# EAGLE library part MSP430-23P (library E&R_BoosterPacks)
MSP430 Booster Pack con pines GND & VCC
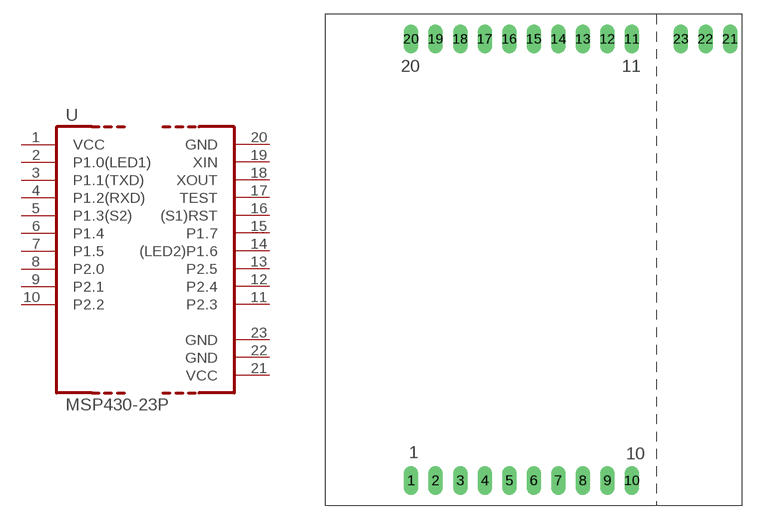
[diagram p1: symbol with the pads of MSP430-23P; footprint MSP430-23P]

Designator prefix U

## MSP430-23P  [MSP430-23P]
1  VCC  pwr
2  P1.0(LED1)
3  P1.1(TXD)
4  P1.2(RXD)
5  P1.3(S2)
6  P1.4
7  P1.5
8  P2.0
9  P2.1
10  P2.2
11  P2.3
12  P2.4
13  P2.5
14  (LED2)P1.6
15  P1.7
16  (S1)RST
17  TEST
18  XOUT
19  XIN
20  GND  pwr
21  VCC  pwr
22  GND  pwr
23  GND  pwr

## Footprint MSP430-23P (pad centres in mm)
MSP430 Booster Pack con pines GND & VCC
drill 1.016 long: 1 -11.43,-22.86; 2 -8.89,-22.86; 3 -6.35,-22.86; 4 -3.81,-22.86; 5 -1.27,-22.86; 6 1.27,-22.86; 7 3.81,-22.86; 8 6.35,-22.86; 9 8.89,-22.86; 10 11.43,-22.86; 11 11.43,22.86; 12 8.89,22.86; 13 6.35,22.86; 14 3.81,22.86; 15 1.27,22.86; 16 -1.27,22.86; 17 -3.81,22.86; 18 -6.35,22.86; 19 -8.89,22.86; 20 -11.43,22.86; 21 21.59,22.86; 22 19.05,22.86; 23 16.51,22.86